# Altium footprint library SemiConductors.PcbLib: 11 footprints
Each footprint in its own frame and in the unit in brackets; x right, y up, seen from the top. Pads: shape width x height; smd on the part's side, far side on the other; paste and mask are expansions set on the pad; w line width, h text height; cw(c..) or ccw(c..) is an arc to the next point about the centre after c.
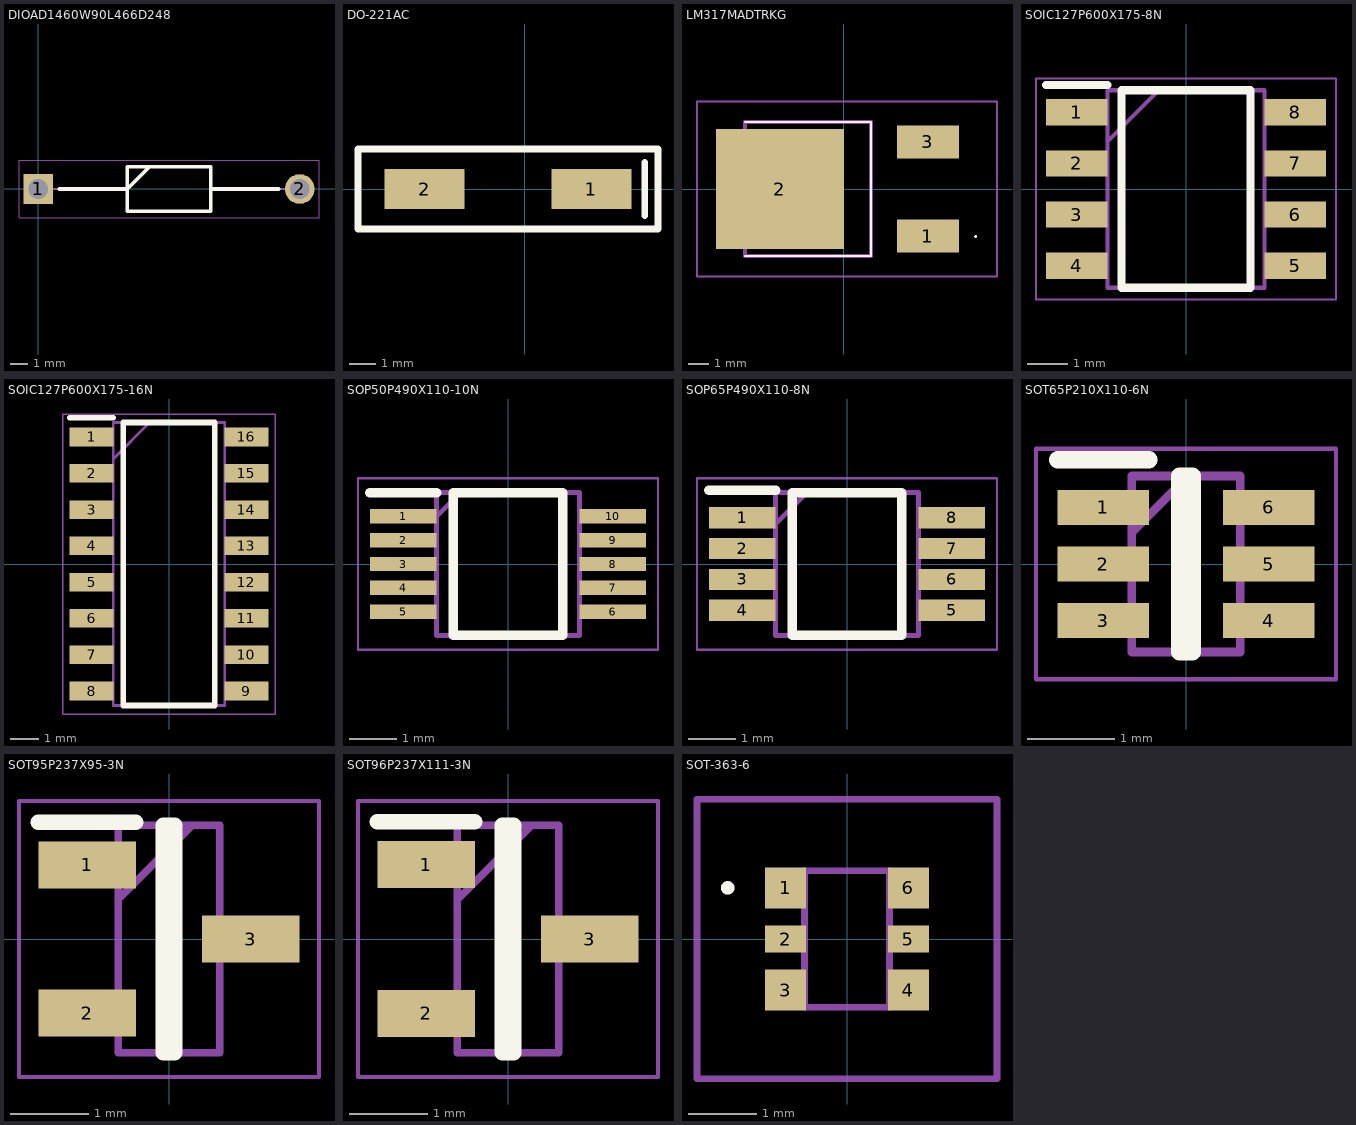
[diagram p0: the footprints below, top view; thin cyan lines are the x and y axes]

## DIOAD1460W90L466D248 [mm]
pads (2):
  rect 1.65x1.65 / inner round 1.65 / far side rect 1.65x1.65 hole 1.1: 1(0,0)
  round 1.65 hole 1.1: 2(14.6,0)
Top Overlay:
  lines w0.2: 1.175,0 4.972,0 6.215,1.242 ; 9.628,0 13.425,0 ; 4.972,-1.242 9.628,-1.242 9.628,1.242 4.972,1.242 4.972,-1.242
Mechanical 15:
  lines w0.1: 0,0 4.972,0 6.214,1.242 ; 9.628,0 14.6,0 ; 4.972,-1.243 9.627,-1.243 9.627,1.242 4.972,1.242 4.972,-1.243
Mechanical 20:
  lines w0.05: -1.075,-1.593 15.675,-1.593 15.675,1.592 -1.075,1.592 -1.075,-1.593
3D body "1N4001-G.stp": height 2.96, standoff -2.97, extent -0.446,-1.482 15.045,1.482

## DO-221AC [mil]
pads (2):
  rect 120x60 smd: 1(100,0) 2(-150,0)
Top Overlay:
  lines w10: 180,-40 180,40 ; -250,-60 200,-60 200,-10 200,50 200,60 -190,60 -250,60 -250,-60
3D body "TPSMA6L24A.stp": height 43.31, standoff 0, extent -132.36,-51.18 72.36,51.18

## LM317MADTRKG [mm]
pads (3):
  rect 3x1.6 smd: 1(4.08,-2.285) 3(4.08,2.285)
  rect 6.2x5.8 smd: 2(-3.1,0)
Top Overlay:
  lines w0.068: 6.358,-2.308 ccw(c6.392,-2.308) 6.426,-2.308 ccw(c6.392,-2.308) 6.358,-2.308
  lines w0.1: -4.79,-3.25 1.31,-3.25 1.31,3.25 -4.79,3.25
Mechanical 13:
  lines w0.2: -4.79,-3.25 1.31,-3.25 1.31,3.25 -4.79,3.25 -4.79,-3.25
Mechanical 15:
  lines w0.1: -7.12,-4.25 7.426,-4.25 7.426,4.25 -7.12,4.25 -7.12,-4.25
3D body "MC7805BDTRKG.stp": height 2.18, standoff 0, extent -5.035,-3.17 4.365,3.18

## SOIC127P600X175-8N [mm]
pads (8):
  rect 1.528x0.65 smd: 1(-2.711,1.905) 2(-2.711,0.635) 3(-2.711,-0.635) 4(-2.711,-1.905) 5(2.711,-1.905) 6(2.711,-0.635) 7(2.711,0.635) 8(2.711,1.905)
Top Overlay:
  lines w0.2: -3.475,2.58 -1.948,2.58 ; -1.598,-2.452 -1.598,2.452 1.598,2.452 1.598,-2.452 -1.598,-2.452
Mechanical 13:
  lines w0.1: -1.948,1.182 -0.678,2.452 ; -1.948,-2.452 -1.948,2.452 1.948,2.452 1.948,-2.452 -1.948,-2.452
Mechanical 15:
  lines w0.05: -3.725,-2.75 -3.725,2.75 3.725,2.75 3.725,-2.75 -3.725,-2.75
3D body "LM358DR.stp": height 1.63, standoff 0, extent -3.011,-2.451 3.011,2.451

## SOIC127P600X175-16N [mm]
pads (16):
  rect 1.525x0.65 smd: 1(-2.712,4.445) 2(-2.712,3.175) 3(-2.712,1.905) 4(-2.712,0.635) 5(-2.712,-0.635) 6(-2.712,-1.905) 7(-2.712,-3.175) 8(-2.712,-4.445) 9(2.712,-4.445) 10(2.712,-3.175) 11(2.712,-1.905) 12(2.712,-0.635) 13(2.712,0.635) 14(2.712,1.905) 15(2.712,3.175) 16(2.712,4.445)
Top Overlay:
  lines w0.2: -3.475,5.12 -1.95,5.12 ; -1.6,-4.95 -1.6,4.95 1.6,4.95 1.6,-4.95 -1.6,-4.95
Mechanical 15:
  lines w0.1: -1.95,3.68 -0.68,4.95 ; -1.95,-4.95 -1.95,4.95 1.95,4.95 1.95,-4.95 -1.95,-4.95
Mechanical 20:
  lines w0.05: -3.725,-5.25 -3.725,5.25 3.725,5.25 3.725,-5.25 -3.725,-5.25
3D body "AM26C32CDR.stp": height 1.75, standoff 0, extent -3.013,-4.95 3.013,4.95

## SOP50P490X110-10N [mm]
pads (10):
  rect 1.4x0.3 smd: 1(-2.2,1) 2(-2.2,0.5) 3(-2.2,0) 4(-2.2,-0.5) 5(-2.2,-1) 6(2.2,-1) 7(2.2,-0.5) 8(2.2,0) 9(2.2,0.5) 10(2.2,1)
Top Overlay:
  lines w0.2: -2.9,1.5 -1.5,1.5 ; -1.15,-1.5 -1.15,1.5 1.15,1.5 1.15,-1.5 -1.15,-1.5
Mechanical 15:
  lines w0.1: -1.5,1 -1,1.5 ; -1.5,-1.5 -1.5,1.5 1.5,1.5 1.5,-1.5 -1.5,-1.5
Mechanical 20:
  lines w0.05: -3.15,-1.8 -3.15,1.8 3.15,1.8 3.15,-1.8 -3.15,-1.8
3D body: height 1.1, standoff 0, extent -2.209,-1.5 2.717,1.5

## SOP65P490X110-8N [mm]
pads (8):
  rect 1.4x0.45 smd: 1(-2.2,0.975) 2(-2.2,0.325) 3(-2.2,-0.325) 4(-2.2,-0.975) 5(2.2,-0.975) 6(2.2,-0.325) 7(2.2,0.325) 8(2.2,0.975)
Top Overlay:
  lines w0.2: -2.9,1.55 -1.5,1.55 ; -1.15,-1.5 1.15,-1.5 1.15,1.5 -1.15,1.5 -1.15,-1.5
Mechanical 15:
  lines w0.1: -1.5,0.85 -0.85,1.5 ; -1.5,-1.5 1.5,-1.5 1.5,1.5 -1.5,1.5 -1.5,-1.5
Mechanical 20:
  lines w0.05: -3.15,-1.8 3.15,-1.8 3.15,1.8 -3.15,1.8 -3.15,-1.8
3D body "LM386MMX-1_NOPB.stp": height 1.1, standoff 0, extent -2.451,-1.499 2.451,1.499

## SOT65P210X110-6N [mm]
pads (6):
  rect 1.05x0.4 smd: 1(-0.95,0.65) 2(-0.95,0) 3(-0.95,-0.65) 4(0.95,-0.65) 5(0.95,0) 6(0.95,0.65)
Top Overlay:
  lines w0.2: -1.475,1.2 -0.425,1.2 ; -0.075,-1.012 0.075,-1.012 0.075,1.012 -0.075,1.012 -0.075,-1.012
Mechanical 15:
  lines w0.1: -0.625,0.362 0.025,1.012 ; -0.625,-1.012 0.625,-1.012 0.625,1.012 -0.625,1.012 -0.625,-1.012
Mechanical 20:
  lines w0.05: -1.725,-1.325 1.725,-1.325 1.725,1.325 -1.725,1.325 -1.725,-1.325
3D body "DG3157EDL-T1-GE3.stp": height 1.1, standoff 0, extent -1.05,-1.012 1.05,1.012

## SOT95P237X95-3N [mm]
pads (3):
  rect 1.25x0.6 smd: 1(-1.05,0.95) 2(-1.05,-0.95) 3(1.05,0)
Top Overlay:
  lines w0.2: -1.675,1.5 -0.425,1.5 ; -0.075,-1.46 0.075,-1.46 0.075,1.46 -0.075,1.46 -0.075,-1.46
Mechanical 15:
  lines w0.1: -0.65,0.51 0.3,1.46 ; -0.65,-1.46 0.65,-1.46 0.65,1.46 -0.65,1.46 -0.65,-1.46
Mechanical 20:
  lines w0.05: -1.925,-1.77 1.925,-1.77 1.925,1.77 -1.925,1.77 -1.925,-1.77
3D body "LM4050CIM3X-4.1_NOPB.stp": height 1, standoff 0, extent -1.27,-1.46 1.27,1.46

## SOT96P237X111-3N [mm]
pads (3):
  rect 1.25x0.6 smd: 1(-1.05,0.955) 2(-1.05,-0.955) 3(1.05,0)
Top Overlay:
  lines w0.2: -1.675,1.505 -0.425,1.505 ; -0.075,-1.46 -0.075,1.46 0.075,1.46 0.075,-1.46 -0.075,-1.46
Mechanical 15:
  lines w0.1: -0.65,0.505 0.305,1.46 ; -0.65,-1.46 -0.65,1.46 0.65,1.46 0.65,-1.46 -0.65,-1.46
Mechanical 20:
  lines w0.05: -1.925,-1.77 -1.925,1.77 1.925,1.77 1.925,-1.77 -1.925,-1.77
3D body "FDV301N.stp": height 1.11, standoff 0, extent -1.312,-1.46 1.058,1.46

## SOT-363-6 [mm]
pads (6):
  rect 0.6x0.6 smd: 1(-0.9,0.75) 3(-0.9,-0.75) 4(0.9,-0.75) 6(0.9,0.75)
  rect 0.6x0.4 smd: 2(-0.9,0) 5(0.9,0)
Top Overlay:
  lines w0.1: -1.8,0.75 ccw(c-1.75,0.75) -1.7,0.75 ccw(c-1.75,0.75) -1.8,0.75
Mechanical 15:
  lines w0.1: -0.625,-1 0.625,-1 0.625,1 -0.625,1 -0.625,-1
Mechanical 20:
  lines w0.1: -2.2,-2.05 2.2,-2.05 2.2,2.05 -2.2,2.05 -2.2,-2.05
3D body "PMP3906AYSH.stp": height 1.2, standoff 0, extent -1.16,-1 1.16,1